# Altium footprint library HVPSlibrary.PcbLib: 149 footprints (part 4 of 11)
Each footprint in its own frame and in the unit in brackets; x right, y up, seen from the top. Pads: shape width x height; smd on the part's side, far side on the other; paste and mask are expansions set on the pad; w line width, h text height; cw(c..) or ccw(c..) is an arc to the next point about the centre after c.
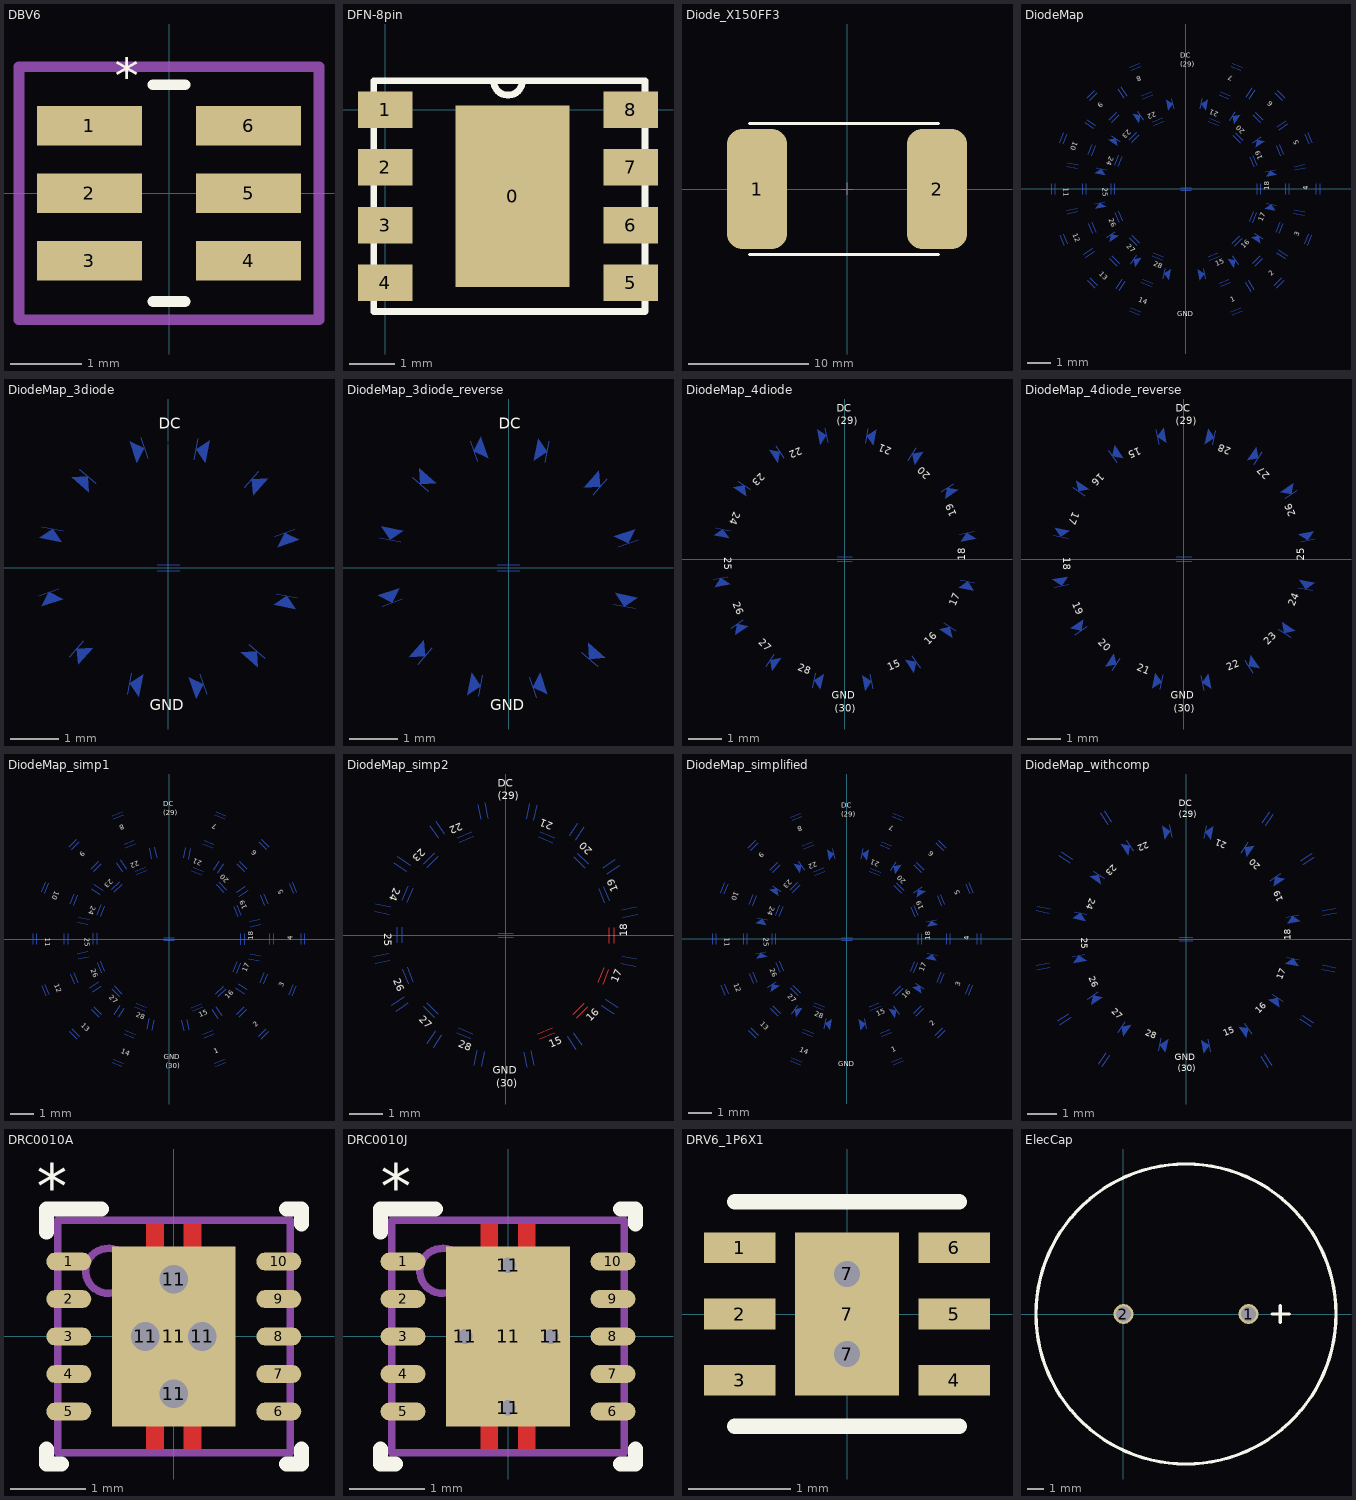
[diagram p3: the footprints below, top view; thin cyan lines are the x and y axes]

## DBV6 [mil]
pads (6):
  rect 58x22 smd: 1(-44,37.4) 2(-44,0) 3(-44,-37.4) 4(44,-37.4) 5(44,0) 6(44,37.4)
Top Overlay:
  lines w6: -8.91,-60 8.91,-60 ; -8.91,60 8.91,60
  text "*" at -30,55 h19.68
Mechanical 13:
  text "*" at -30,55 h19.68
Mechanical 15:
  lines w6: -83,-70 83,-70 83,70 -83,70 -83,-70

## DFN-8pin [mm]
pads (9):
  rect 2.5x4 smd: 0(2.8,-1.905)
  rect 1.2x0.8 smd: 1(0,0) 2(0,-1.27) 3(0,-2.54) 4(0,-3.81) 5(5.4,-3.81) 6(5.4,-2.54) 7(5.4,-1.27) 8(5.4,0)
Top Overlay:
  lines w0.152: 2.382,0.635 ccw(c2.7,0.635) 3.017,0.635 ; -0.254,-4.445 5.715,-4.445 5.715,0.635 -0.254,0.635 -0.254,-4.445
3D body: height 0.8, standoff 0, extent -0.254,-4.445 5.715,0.635

## Diode_X150FF3 [mm] "Through-hole Diode, Body 15x20mm"
height 15
pads (2):
  rrect50% 5x10 smd: 1(-7.5,0) 2(7.5,0)
Top Overlay:
  lines w0.254: -8.128,-5.461 7.62,-5.461 ; -8.128,5.461 7.62,5.461
Mechanical 15:
  lines w0.1: -0.5,0 0.5,0 ; 0,-0.5 0,0.5
3D body: height 7, standoff 0, extent -7.366,-4.699 7.493,4.699

## DiodeMap [mil]
pads (58):
  round 6 on Bottom Overlay: 2(-93.5,-38) 2(-72.5,-71.5) 2(-71,72.5) 2(-38.5,-93.5) 2(-38,93) 2(-0.5,-101.5) 2(0,-150) 2(0.5,101) 2(38,-93) 2(38.5,93) 2(71,-72) 2(72,72) 2(94,-39) 3(57.4,-138.58) 3(76.54,-184.78) 4(106.07,-106.07) 4(141.42,-141.42) 5(138.58,-57.4) 5(184.78,-76.54) 6(150,0) 6(200,0) 7(138.58,57.4) 7(184.78,76.54) 8(106.07,106.07) 8(141.42,141.42) 9(57.4,138.58) 9(76.54,184.78) 10(0,150) 11(-76.54,184.78) 11(-57.4,138.58) 12(-141.42,141.42) 12(-106.07,106.07) 13(-184.78,76.54) 13(-138.58,57.4) 14(-200,0) 14(-150,0) 15(-184.78,-76.54) 15(-138.58,-57.4) 16(-141.42,-141.42) 16(-106.07,-106.07) 17(-252.04,0.22) 17(-76.54,-184.78) 17(-57.4,-138.58) 18(-233.28,-96.54) 19(-178.58,-178.46) 20(-96.69,-233.21) 21(-0.08,-252.46) 22(96.54,-233.28) 23(178.46,-178.58) 24(233.21,-96.69) 25(252.46,-0.08) 26(233.28,96.54) 27(178.58,178.46) 28(96.69,233.21) 29(0.08,252.46) 30(-96.54,233.28) 31(-178.46,178.58) 32(-231.69,96.38)
Bottom Layer:
  region: 26.18,145.13 33.49,134.42 37.14,152.39
  region: 79.72,124.07 82.38,111.37 92.63,126.57
  region: 121.13,84.12 118.73,71.37 134.02,81.49
  region: 144.1,31.36 137,20.5 155,24
  region: 145.13,-26.18 134.42,-33.49 152.39,-37.14
  region: 124.07,-79.72 111.37,-82.38 126.57,-92.63
  region: 84.12,-121.13 71.37,-118.73 81.49,-134.02
  region: 31.36,-144.1 20.5,-137 24,-155
  region: -22.64,144.9 -33.5,152 -30,134
  region: -77.38,125.37 -90.13,127.77 -80.01,112.48
  region: -119.43,86.28 -132.13,83.62 -116.93,73.37
  region: -144.37,34.32 -155.08,27.01 -137.11,23.36
  region: -146.9,-23.14 -154,-34 -136,-30.5
  region: -127.37,-77.38 -129.77,-90.13 -114.48,-80.01
  region: -88.78,-119.93 -86.12,-132.63 -75.87,-117.43
  region: -36.82,-143.87 -29.51,-154.58 -25.86,-136.61
  lines w1: -228.46,-8.92 -228.46,9.08 ; -222.46,-8.92 -222.46,9.08 ; -214.55,-79.04 -207.66,-95.67 ; -214.48,79.19 -207.6,95.82 ; -209,-76.74 -202.12,-93.37 ; -208.94,76.89 -202.05,93.52 ; -203.08,-35.84 -185.41,-32.4 ; -202.53,38.72 -184.89,35.14 ; -201.93,-41.73 -184.26,-38.29 ; -201.33,44.6 -183.69,41.02 ; -176,-9 -176,9 ; -173.9,-110.82 -158.89,-100.89 ; -172.29,113.28 -157.37,103.22 ; -170.59,-115.83 -155.58,-105.89 ; -170,-9 -170,9 ; -168.94,118.26 -154.01,108.19 ; -167.97,-155.12 -155.24,-167.85 ; -167.85,155.24 -155.12,167.97 ; -166.05,-59.04 -159.16,-75.67 ; -166.05,59.04 -159.16,75.67 ; -163.73,-150.88 -151,-163.61 ; -163.61,151 -150.88,163.73 ; -160.5,-56.74 -153.62,-73.37 ; -160.5,56.74 -153.62,73.37 ; -155.5,-25 -138.5,-21.5 ; -153.03,35.9 -135.98,32.63 ; -134.6,-82.39 -120.24,-72.65 ; -130.81,-118.09 -118.09,-130.81 ; -130.81,118.09 -118.09,130.81 ; -127.15,-8.67 -127.15,9.33 ; -126.83,91.05 -112.33,81.5 ; -126.57,-113.84 -113.84,-126.57 ; -126.57,113.84 -113.84,126.57 ; -121.15,-8.67 -121.15,9.33 ; -121.05,-40.04 -114.16,-56.67 ; -120.79,40.65 -113.9,57.28 ; -118.26,-168.94 -108.19,-154.01 ; -115.83,170.59 -105.89,155.58 ; -115.5,-37.74 -108.62,-54.37 ; -115.25,38.36 -108.36,54.99 ; -113.28,-172.29 -103.22,-157.37 ; -110.82,173.9 -100.89,158.89 ; -96.51,-83.31 -83.78,-96.04 ; -96.04,83.78 -83.31,96.51 ; -95.82,-207.6 -79.19,-214.48 ; -95.67,207.66 -79.04,214.55 ; -93.55,-127.33 -84,-112.83 ; -93.52,-202.05 -76.89,-208.94 ; -93.37,202.12 -76.74,209 ; -92.27,-79.07 -79.54,-91.8 ; -91.8,79.54 -79.07,92.27 ; -82.39,132.6 -72.65,118.24 ; -75.67,-159.16 -59.04,-166.05 ; -75.67,159.16 -59.04,166.05 ; -73.37,-153.62 -56.74,-160.5 ; -73.37,153.62 -56.74,160.5 ; -57.28,-113.9 -40.65,-120.79 ; -56.67,114.16 -40.04,121.05 ; -54.99,-108.36 -38.36,-115.25 ; -54.37,108.62 -37.74,115.5 ; -38.4,-152.53 -35.13,-135.48 ; -24.5,153.5 -21,136.5 ; -9,-2.5 9,-2.5 ; -9,2.5 9,2.5 ; 24.6,136.47 27.87,153.52 ; 29.5,-135.5 33,-152.5 ; 38.36,115.25 54.99,108.36 ; 40.65,120.79 57.28,113.9 ; 56.74,-160.5 73.37,-153.62 ; 56.74,160.5 73.37,153.62 ; 59.04,-166.05 75.67,-159.16 ; 59.04,166.05 75.67,159.16 ; 74.95,116.67 84.5,131.17 ; 76.89,208.94 93.52,202.05 ; 79.07,-92.27 91.8,-79.54 ; 79.11,-113.9 88.85,-128.26 ; 79.19,214.48 95.82,207.6 ; 79.54,91.8 92.27,79.07 ; 83.31,-96.51 96.04,-83.78 ; 83.78,96.04 96.51,83.31 ; 100.89,-158.89 110.82,-173.9 ; 103.22,157.37 113.28,172.29 ; 105.89,-155.58 115.83,-170.59 ; 108.19,154.01 118.26,168.94 ; 108.36,-54.99 115.25,-38.36 ; 108.62,54.37 115.5,37.74 ; 113.84,-126.57 126.57,-113.84 ; 113.84,126.57 126.57,113.84 ; 113.9,-57.28 120.79,-40.65 ; 113.9,79.11 128.26,88.85 ; 114.16,56.67 121.05,40.04 ; 116.67,-74.95 131.17,-84.5 ; 118.09,-130.81 130.81,-118.09 ; 118.09,130.81 130.81,118.09 ; 121.15,-9.33 121.15,8.67 ; 127.15,-9.33 127.15,8.67 ; 135.5,29.5 152.5,33 ; 136.47,-24.6 153.52,-27.87 ; 150.88,-163.73 163.61,-151 ; 151,163.61 163.73,150.88 ; 153.62,-73.37 160.5,-56.74 ; 153.62,73.37 160.5,56.74 ; 154.01,-108.19 168.94,-118.26 ; 155.12,-167.97 167.85,-155.24 ; 155.24,167.85 167.97,155.12 ; 155.58,105.89 170.59,115.83 ; 157.37,-103.22 172.29,-113.28 ; 158.89,100.89 173.9,110.82 ; 159.16,-75.67 166.05,-59.04 ; 159.16,75.67 166.05,59.04 ; 170,-9 170,9 ; 176,-9 176,9 ; 183.69,-41.02 201.33,-44.6 ; 184.26,38.29 201.93,41.73 ; 184.89,-35.14 202.53,-38.72 ; 185.41,32.4 203.08,35.84 ; 202.05,-93.52 208.94,-76.89 ; 202.12,93.37 209,76.74 ; 207.6,-95.82 214.48,-79.19 ; 207.66,95.67 214.55,79.04 ; 222.46,-9.08 222.46,8.92 ; 228.46,-9.08 228.46,8.92 ; 37.74,-115.5 54.37,-108.62 37.74,-115.5 ; 40.04,-121.05 56.67,-114.16 40.04,-121.05 ; 76.74,-209 93.37,-202.12 76.74,-209 ; 79.04,-214.55 95.67,-207.66 79.04,-214.55
Top Overlay:
  text "GND" at -14.5,-220 h15
  text "28" at -57.34,-133.2 h15
  text "27" at -103.94,-101.12 h15
  text "26" at -134.73,-53.64 h15
  text "25" at -145,2 h15
  text "24" at -133.2,57.34 h15
  text "23" at -101.12,103.94 h15
  text "22" at -53.64,134.73 h15
  text "21" at 57.34,133.2 h15
  text "20" at 103.94,101.12 h15
  text "19" at 134.73,53.64 h15
  text "18" at 145,-2 h15
  text "17" at 133.2,-57.34 h15
  text "16" at 101.12,-103.94 h15
  text "15" at 53.64,-134.73 h15
  text "14" at -82.79,-194.64 h15
  text "13" at -150.97,-148.14 h15
  text "12" at -196.17,-79.09 h15
  text "11" at -211.5,2 h15
  text "10" at -194.64,82.79 h15
  text "9" at -148.14,150.97 h15
  text "8" at -79.09,196.17 h15
  text "DC / (29)" at -9.88,204.98 h15
  text "7" at 82.79,194.64 h15
  text "6" at 150.97,148.14 h15
  text "5" at 196.17,79.09 h15
  text "4" at 211.5,-2 h15
  text "3" at 194.64,-82.79 h15
  text "2" at 148.14,-150.97 h15
  text "1" at 79.09,-196.17 h15
Bottom Overlay:
  drawing of 182 lines, arcs and shapes, not listed

## DiodeMap_3diode [mil]
pads (12):
  round 6 on Bottom Overlay: 9(0.5,101) 10(-49.88,88.4) 11(-87.4,51.62) 12(-101.5,1) 13(-88.4,-49.88) 14(-51.62,-87.4) 15(-1,-101.5) 16(49.88,-88.4) 17(87.4,-51.62) 18(101.5,-1) 19(88.4,49.88) 20(51.62,87.4)
Bottom Layer:
  region: 22.67,95.9 29.99,85.18 33.64,103.15
  region: 67.59,71.72 68.56,58.78 80.71,72.51
  region: 94.39,28.31 88.76,16.62 106.15,22.44
  region: 95.9,-22.67 85.18,-29.99 103.15,-33.64
  region: 71.72,-67.59 58.78,-68.56 72.51,-80.71
  region: 28.31,-94.39 16.62,-88.76 22.44,-106.15
  region: -31.45,-93.73 -24.14,-104.45 -20.48,-86.48
  region: -74.1,-65.45 -73.13,-78.39 -60.98,-64.65
  region: -96.9,-19.63 -102.53,-31.32 -85.14,-25.5
  region: -93.73,31.45 -104.45,24.14 -86.48,20.48
  region: -65.45,74.1 -78.39,73.13 -64.65,60.98
  region: -19.63,96.9 -31.32,102.53 -25.5,85.14
  lines w1: -105.19,-22.59 -88.79,-16.9 ; -102.39,33.03 -85.35,29.76 ; -79.8,-72.16 -68.44,-59.03 ; -72.16,79.8 -59.03,68.44 ; -33.03,-102.39 -29.76,-85.35 ; -22.59,105.19 -16.9,88.79 ; -9,-2.5 9,-2.5 ; -9,2.5 9,2.5 ; 21.1,87.24 24.37,104.29 ; 25.35,-86.1 31.04,-102.5 ; 61.89,65 73.25,78.13 ; 65,-61.89 78.13,-73.25 ; 86.1,25.35 102.5,31.04 ; 87.24,-21.1 104.29,-24.37
Top Overlay:
  text "DC" at -8,109.5 h15
  text "GND" at -15,-118.5 h15
Bottom Overlay:
  lines w1: -101.5,1 -95.88,22.51 ; -101.15,0.33 -97,-19.5 ; -94.29,-28.44 -88.4,-49.88 ; -93.75,31.61 -87.44,50.87 ; -87.77,-50.29 -74.25,-65.39 ; -87.4,51.62 -71.78,67.44 ; -67.44,-71.78 -51.62,-87.4 ; -65.39,74.25 -50.29,87.77 ; -50.87,-87.44 -31.61,-93.75 ; -49.88,88.4 -28.44,94.29 ; -22.51,-95.88 -1,-101.5 ; -19.5,97 0.33,101.15 0.33,3 ; -0.33,-101.15 19.5,-97 ; -0.17,-101 -0.17,-2.85 ; 1,101.5 22.51,95.88 ; 28.44,-94.29 49.88,-88.4 ; 31.61,93.75 50.87,87.44 ; 50.29,-87.77 65.39,-74.25 ; 51.62,87.4 67.44,71.78 ; 71.78,-67.44 87.4,-51.62 ; 74.25,65.39 87.77,50.29 ; 87.44,-50.87 93.75,-31.61 ; 88.4,49.88 94.29,28.44 ; 95.88,-22.51 101.5,-1 ; 97,19.5 101.15,-0.33

## DiodeMap_3diode_reverse [mil]
pads (12):
  round 6 on Bottom Overlay: 9(-0.5,-101) 10(49.88,-88.4) 11(87.4,-51.62) 12(101.5,-1) 13(88.4,49.88) 14(51.62,87.4) 15(1,101.5) 16(-49.88,88.4) 17(-87.4,51.62) 18(-101.5,1) 19(-88.4,-49.88) 20(-51.62,-87.4)
Bottom Layer:
  region: 19.63,-96.9 31.32,-102.53 25.5,-85.14
  region: 65.45,-74.1 78.39,-73.13 64.65,-60.98
  region: 93.73,-31.45 104.45,-24.14 86.48,-20.48
  region: 96.9,19.63 102.53,31.32 85.14,25.5
  region: 74.1,65.45 73.13,78.39 60.98,64.65
  region: 31.45,93.73 24.14,104.45 20.48,86.48
  region: -28.31,94.39 -16.62,88.76 -22.44,106.15
  region: -71.72,67.59 -58.78,68.56 -72.51,80.71
  region: -95.9,22.67 -85.18,29.99 -103.15,33.64
  region: -94.39,-28.31 -88.76,-16.62 -106.15,-22.44
  region: -67.59,-71.72 -68.56,-58.78 -80.71,-72.51
  region: -22.67,-95.9 -29.99,-85.18 -33.64,-103.15
  lines w1: -104.29,24.37 -87.24,21.1 ; -102.5,-31.04 -86.1,-25.35 ; -78.13,73.25 -65,61.89 ; -73.25,-78.13 -61.89,-65 ; -31.04,102.5 -25.35,86.1 ; -24.37,-104.29 -21.1,-87.24 ; -9,-2.5 9,-2.5 ; -9,2.5 9,2.5 ; 16.9,-88.79 22.59,-105.19 ; 29.76,85.35 33.03,102.39 ; 59.03,-68.44 72.16,-79.8 ; 68.44,59.03 79.8,72.16 ; 85.35,-29.76 102.39,-33.03 ; 88.79,16.9 105.19,22.59
Top Overlay:
  text "GND" at -15,-118.5 h15
  text "DC" at -8,109.5 h15
Bottom Overlay:
  lines w1: -101.5,1 -95.88,22.51 ; -101.15,0.33 -97,-19.5 ; -94.29,-28.44 -88.4,-49.88 ; -93.75,31.61 -87.44,50.87 ; -87.77,-50.29 -74.25,-65.39 ; -87.4,51.62 -71.78,67.44 ; -67.44,-71.78 -51.62,-87.4 ; -65.39,74.25 -50.29,87.77 ; -50.87,-87.44 -31.61,-93.75 ; -49.88,88.4 -28.44,94.29 ; -22.51,-95.88 -1,-101.5 ; -19.5,97 0.33,101.15 ; -0.33,-3 -0.33,-101.15 19.5,-97 ; 0.17,2.85 0.17,101 ; 1,101.5 22.51,95.88 ; 28.44,-94.29 49.88,-88.4 ; 31.61,93.75 50.87,87.44 ; 50.29,-87.77 65.39,-74.25 ; 51.62,87.4 67.44,71.78 ; 71.78,-67.44 87.4,-51.62 ; 74.25,65.39 87.77,50.29 ; 87.44,-50.87 93.75,-31.61 ; 88.4,49.88 94.29,28.44 ; 95.88,-22.51 101.5,-1 ; 97,19.5 101.15,-0.33

## DiodeMap_4diode [mil]
pads (15):
  round 6 on Bottom Overlay: 2(0,-150) 3(57.4,-138.58) 4(106.07,-106.07) 5(138.58,-57.4) 6(150,0) 7(138.58,57.4) 8(106.07,106.07) 9(57.4,138.58) 10(0,150) 11(-57.4,138.58) 12(-106.07,106.07) 13(-138.58,57.4) 14(-150,0) 15(-138.58,-57.4) 16(-106.07,-106.07)
Bottom Layer:
  region: -35.82,-142.87 -28.51,-153.58 -24.86,-135.61
  region: -87.78,-118.93 -85.12,-131.63 -74.87,-116.43
  region: -126.37,-76.38 -128.77,-89.13 -113.48,-79.01
  region: -145.9,-22.14 -153,-33 -135,-29.5
  region: -143.37,35.32 -154.08,28.01 -136.11,24.36
  region: -118.43,87.28 -131.13,84.62 -115.93,74.37
  region: -76.38,126.37 -89.13,128.77 -79.01,113.48
  region: -21.64,145.9 -32.5,153 -29,135
  region: 26.18,145.13 33.49,134.42 37.14,152.39
  region: 79.72,124.07 82.38,111.37 92.63,126.57
  region: 121.13,84.12 118.73,71.37 134.02,81.49
  region: 144.1,31.36 137,20.5 155,24
  region: 145.13,-26.18 134.42,-33.49 152.39,-37.14
  region: 124.07,-79.72 111.37,-82.38 126.57,-92.63
  region: 84.12,-121.13 71.37,-118.73 81.49,-134.02
  region: 31.36,-144.1 20.5,-137 24,-155
  lines w1: -154.5,-24 -137.5,-20.5 ; -152.03,36.9 -134.98,33.63 ; -133.6,-81.39 -119.24,-71.65 ; -125.83,92.05 -111.33,82.5 ; -92.55,-126.33 -83,-111.83 ; -81.39,133.6 -71.65,119.24 ; -37.4,-151.53 -34.13,-134.48 ; -23.5,154.5 -20,137.5 ; -9,-2.5 9,-2.5 ; -9,2.5 9,2.5 ; 24.6,136.47 27.87,153.52 ; 29.5,-135.5 33,-152.5 ; 74.95,116.67 84.5,131.17 ; 79.11,-113.9 88.85,-128.26 ; 113.9,79.11 128.26,88.85 ; 116.67,-74.95 131.17,-84.5 ; 135.5,29.5 152.5,33 ; 136.47,-24.6 153.52,-27.87
Top Overlay:
  text "GND /  (30)" at -15.5,-182.5 h15
  text "28" at -57.34,-133.2 h15
  text "27" at -103.94,-101.12 h15
  text "26" at -134.73,-53.64 h15
  text "25" at -145,2 h15
  text "24" at -133.2,57.34 h15
  text "22" at -53.64,134.73 h15
  text "21" at 57.34,133.2 h15
  text "20" at 103.94,101.12 h15
  text "19" at 134.73,53.64 h15
  text "18" at 145,-2 h15
  text "17" at 133.2,-57.34 h15
  text "16" at 101.12,-103.94 h15
  text "15" at 53.64,-134.73 h15
  text "DC / (29)" at -9.5,156 h15
  text "23" at -101.12,103.94 h15
Bottom Overlay:
  lines w1: -146,-22 -150,0 -145.13,26.18 ; -144.1,-31.36 -138.58,-57.4 -126.47,-76.2 ; -143.31,35.55 -138.58,57.4 -124.07,79.72 ; -121.13,-84.12 -106.07,-106.07 -87.68,-118.79 ; -118.79,87.68 -106.07,106.07 -84.12,121.13 ; -79.72,-124.07 -57.4,-138.58 -35.55,-143.31 ; -76.2,126.47 -57.4,138.58 -31.36,144.1 ; -26.18,-145.13 0,-150 22,-146 ; -22,146 0,150 26.18,145.13 ; -0.33,-151.15 -0.33,-127.65 -0.33,-101.15 ; -0.17,-101 -0.17,-2.85 ; 0.33,3 0.33,101.15 0.33,120.65 0.33,151.15 ; 31.36,-144.1 57.4,-138.58 76.2,-126.47 ; 35.55,143.31 57.4,138.58 79.72,124.07 ; 84.12,-121.13 106.07,-106.07 118.79,-87.68 ; 87.68,118.79 106.07,106.07 121.13,84.12 ; 124.07,-79.72 138.58,-57.4 143.31,-35.55 ; 126.47,76.2 138.58,57.4 144.1,31.36 ; 145.13,-26.18 150,0 146,22

## DiodeMap_4diode_reverse [mil]
pads (15):
  round 6 on Bottom Overlay: 2(0,150) 3(-57.4,138.58) 4(-106.07,106.07) 5(-138.58,57.4) 6(-150,0) 7(-138.58,-57.4) 8(-106.07,-106.07) 9(-57.4,-138.58) 10(0,-150) 11(57.4,-138.58) 12(106.07,-106.07) 13(138.58,-57.4) 14(150,0) 15(138.58,57.4) 16(106.07,106.07)
Bottom Layer:
  region: -31.36,144.1 -20.5,137 -24,155
  region: -84.12,121.13 -71.37,118.73 -81.49,134.02
  region: -124.07,79.72 -111.37,82.38 -126.57,92.63
  region: -145.13,26.18 -134.42,33.49 -152.39,37.14
  region: -144.1,-31.36 -137,-20.5 -155,-24
  region: -121.13,-84.12 -118.73,-71.37 -134.02,-81.49
  region: -79.72,-124.07 -82.38,-111.37 -92.63,-126.57
  region: -26.18,-145.13 -33.49,-134.42 -37.14,-152.39
  region: 21.64,-145.9 32.5,-153 29,-135
  region: 76.38,-126.37 89.13,-128.77 79.01,-113.48
  region: 118.43,-87.28 131.13,-84.62 115.93,-74.37
  region: 143.37,-35.32 154.08,-28.01 136.11,-24.36
  region: 145.9,22.14 153,33 135,29.5
  region: 126.37,76.38 128.77,89.13 113.48,79.01
  region: 87.78,118.93 85.12,131.63 74.87,116.43
  region: 35.82,142.87 28.51,153.58 24.86,135.61
  lines w1: -153.52,27.87 -136.47,24.6 ; -152.5,-33 -135.5,-29.5 ; -131.17,84.5 -116.67,74.95 ; -128.26,-88.85 -113.9,-79.11 ; -88.85,128.26 -79.11,113.9 ; -84.5,-131.17 -74.95,-116.67 ; -33,152.5 -29.5,135.5 ; -27.87,-153.52 -24.6,-136.47 ; -9,-2.5 9,-2.5 ; -9,2.5 9,2.5 ; 20,-137.5 23.5,-154.5 ; 34.13,134.48 37.4,151.53 ; 71.65,-119.24 81.39,-133.6 ; 83,111.83 92.55,126.33 ; 111.33,-82.5 125.83,-92.05 ; 119.24,71.65 133.6,81.39 ; 134.98,-33.63 152.03,-36.9 ; 137.5,20.5 154.5,24
Top Overlay:
  text "23" at 101.12,-103.94 h15
  text "DC / (29)" at -9.5,156 h15
  text "15" at -53.64,134.73 h15
  text "16" at -101.12,103.94 h15
  text "17" at -133.2,57.34 h15
  text "18" at -145,2 h15
  text "19" at -134.73,-53.64 h15
  text "20" at -103.94,-101.12 h15
  text "21" at -57.34,-133.2 h15
  text "22" at 53.64,-134.73 h15
  text "24" at 133.2,-57.34 h15
  text "25" at 145,-2 h15
  text "26" at 134.73,53.64 h15
  text "27" at 103.94,101.12 h15
  text "28" at 57.34,133.2 h15
  text "GND /  (30)" at -15.5,-182.5 h15
Bottom Overlay:
  lines w1: -146,-22 -150,0 -145.13,26.18 ; -144.1,-31.36 -138.58,-57.4 -126.47,-76.2 ; -143.31,35.55 -138.58,57.4 -124.07,79.72 ; -121.13,-84.12 -106.07,-106.07 -87.68,-118.79 ; -118.79,87.68 -106.07,106.07 -84.12,121.13 ; -79.72,-124.07 -57.4,-138.58 -35.55,-143.31 ; -76.2,126.47 -57.4,138.58 -31.36,144.1 ; -26.18,-145.13 0,-150 22,-146 ; -22,146 0,150 26.18,145.13 ; -0.33,-151.15 -0.33,-120.65 -0.33,-101.15 -0.33,-3 ; 0.17,2.85 0.17,101 ; 0.33,101.15 0.33,127.65 0.33,151.15 ; 31.36,-144.1 57.4,-138.58 76.2,-126.47 ; 35.55,143.31 57.4,138.58 79.72,124.07 ; 84.12,-121.13 106.07,-106.07 118.79,-87.68 ; 87.68,118.79 106.07,106.07 121.13,84.12 ; 124.07,-79.72 138.58,-57.4 143.31,-35.55 ; 126.47,76.2 138.58,57.4 144.1,31.36 ; 145.13,-26.18 150,0 146,22

## DiodeMap_simp1 [mil]
pads (35):
  round 6 on Bottom Overlay: 2(0,-200) 2(0,-200) 2(0,-150) 2(0,-101.5) 2(1,101) 3(57.4,-138.58) 3(76.54,-184.78) 4(106.07,-106.07) 4(141.42,-141.42) 5(138.58,-57.4) 5(184.78,-76.54) 6(150,0) 6(200,0) 7(138.58,57.4) 7(184.78,76.54) 8(106.07,106.07) 8(141.42,141.42) 9(57.4,138.58) 9(76.54,184.78) 10(0,150) 10(0,200) 11(-76.54,184.78) 11(-57.4,138.58) 12(-141.42,141.42) 12(-106.07,106.07) 13(-184.78,76.54) 13(-138.58,57.4) 14(-200,0) 14(-150,0) 15(-184.78,-76.54) 15(-138.58,-57.4) 16(-141.42,-141.42) 16(-106.07,-106.07) 17(-76.54,-184.78) 17(-57.4,-138.58)
Bottom Layer:
  lines w1: -228.46,-8.92 -228.46,9.08 ; -222.46,-8.92 -222.46,9.08 ; -214.55,-79.04 -207.66,-95.67 ; -214.48,79.19 -207.6,95.82 ; -209,-76.74 -202.12,-93.37 ; -208.94,76.89 -202.05,93.52 ; -176,-9 -176,9 ; -170,-9 -170,9 ; -167.97,-155.12 -155.24,-167.85 ; -167.85,155.24 -155.12,167.97 ; -166.05,-59.04 -159.16,-75.67 ; -166.05,59.04 -159.16,75.67 ; -163.73,-150.88 -151,-163.61 ; -163.61,151 -150.88,163.73 ; -160.5,-56.74 -153.62,-73.37 ; -160.5,56.74 -153.62,73.37 ; -154.67,-24.44 -137,-21 ; -153.52,27.87 -136.47,24.6 ; -152.5,-33 -135.5,-29.5 ; -152.25,36.61 -134.61,33.03 ; -133.54,-81.77 -118.54,-71.83 ; -131.17,84.5 -116.67,74.95 ; -130.81,-118.09 -118.09,-130.81 ; -130.81,118.09 -118.09,130.81 ; -128.26,-88.85 -113.9,-79.11 ; -127.15,-8.67 -127.15,9.33 ; -126.65,92.09 -111.72,82.02 ; -126.57,-113.84 -113.84,-126.57 ; -126.57,113.84 -113.84,126.57 ; -121.15,-8.67 -121.15,9.33 ; -121.05,-40.04 -114.16,-56.67 ; -120.79,40.65 -113.9,57.28 ; -115.5,-37.74 -108.62,-54.37 ; -115.25,38.36 -108.36,54.99 ; -96.51,-83.31 -83.78,-96.04 ; -96.04,83.78 -83.31,96.51 ; -95.82,-207.6 -79.19,-214.48 ; -95.67,207.66 -79.04,214.55 ; -93.52,-202.05 -76.89,-208.94 ; -93.37,202.12 -76.74,209 ; -92.27,-79.07 -79.54,-91.8 ; -92.09,-126.65 -82.02,-111.72 ; -91.8,79.54 -79.07,92.27 ; -88.85,128.26 -79.11,113.9 ; -84.5,-131.17 -74.95,-116.67 ; -81.77,133.54 -71.83,118.54 ; -75.67,-159.16 -59.04,-166.05 ; -75.67,159.16 -59.04,166.05 ; -73.37,-153.62 -56.74,-160.5 ; -73.37,153.62 -56.74,160.5 ; -57.28,-113.9 -40.65,-120.79 ; -56.67,114.16 -40.04,121.05 ; -54.99,-108.36 -38.36,-115.25 ; -54.37,108.62 -37.74,115.5 ; -36.61,-152.25 -33.03,-134.61 ; -33,152.5 -29.5,135.5 ; -27.87,-153.52 -24.6,-136.47 ; -24.44,154.67 -21,137 ; -9,-2.5 9,-2.5 ; -9,2.5 9,2.5 ; 21,-137 24.44,-154.67 ; 24.6,136.47 27.87,153.52 ; 29.5,-135.5 33,-152.5 ; 33.03,134.61 36.61,152.25 ; 38.36,115.25 54.99,108.36 ; 40.65,120.79 57.28,113.9 ; 56.74,-160.5 73.37,-153.62 ; 56.74,160.5 73.37,153.62 ; 59.04,-166.05 75.67,-159.16 ; 59.04,166.05 75.67,159.16 ; 71.83,-118.54 81.77,-133.54 ; 74.95,116.67 84.5,131.17 ; 76.89,208.94 93.52,202.05 ; 79.07,-92.27 91.8,-79.54 ; 79.11,-113.9 88.85,-128.26 ; 79.19,214.48 95.82,207.6 ; 79.54,91.8 92.27,79.07 ; 82.02,111.72 92.09,126.65 ; 83.31,-96.51 96.04,-83.78 ; 83.78,96.04 96.51,83.31 ; 108.36,-54.99 115.25,-38.36 ; 108.62,54.37 115.5,37.74 ; 111.72,-82.02 126.65,-92.09 ; 113.84,-126.57 126.57,-113.84 ; 113.84,126.57 126.57,113.84 ; 113.9,-57.28 120.79,-40.65 ; 113.9,79.11 128.26,88.85 ; 114.16,56.67 121.05,40.04 ; 116.67,-74.95 131.17,-84.5 ; 118.09,-130.81 130.81,-118.09 ; 118.09,130.81 130.81,118.09 ; 118.54,71.83 133.54,81.77 ; 121.15,-9.33 121.15,8.67 ; 127.15,-9.33 127.15,8.67 ; 134.61,-33.03 152.25,-36.61 ; 135.5,29.5 152.5,33 ; 136.47,-24.6 153.52,-27.87 ; 137,21 154.67,24.44 ; 150.88,-163.73 163.61,-151 ; 151,163.61 163.73,150.88 ; 153.62,-73.37 160.5,-56.74 ; 153.62,73.37 160.5,56.74 ; 155.12,-167.97 167.85,-155.24 ; 155.24,167.85 167.97,155.12 ; 159.16,-75.67 166.05,-59.04 ; 159.16,75.67 166.05,59.04 ; 170,-9 170,9 ; 176,-9 176,9 ; 202.05,-93.52 208.94,-76.89 ; 202.12,93.37 209,76.74 ; 207.6,-95.82 214.48,-79.19 ; 207.66,95.67 214.55,79.04 ; 222.46,-9.08 222.46,8.92 ; 228.46,-9.08 228.46,8.92 ; 37.74,-115.5 54.37,-108.62 37.74,-115.5 ; 40.04,-121.05 56.67,-114.16 40.04,-121.05 ; 76.74,-209 93.37,-202.12 76.74,-209 ; 79.04,-214.55 95.67,-207.66 79.04,-214.55
Top Overlay:
  text "28" at -57.34,-133.2 h15
  text "27" at -103.94,-101.12 h15
  text "26" at -134.73,-53.64 h15
  text "25" at -145,2 h15
  text "24" at -133.2,57.34 h15
  text "23" at -101.12,103.94 h15
  text "22" at -53.64,134.73 h15
  text "21" at 57.34,133.2 h15
  text "20" at 103.94,101.12 h15
  text "19" at 134.73,53.64 h15
  text "18" at 145,-2 h15
  text "17" at 133.2,-57.34 h15
  text "16" at 101.12,-103.94 h15
  text "15" at 53.64,-134.73 h15
  text "14" at -82.79,-194.64 h15
  text "13" at -150.97,-148.14 h15
  text "12" at -196.17,-79.09 h15
  text "11" at -211.5,2 h15
  text "10" at -194.64,82.79 h15
  text "9" at -148.14,150.97 h15
  text "8" at -79.09,196.17 h15
  text "DC / (29)" at -9.88,204.98 h15
  text "7" at 82.79,194.64 h15
  text "6" at 150.97,148.14 h15
  text "5" at 196.17,79.09 h15
  text "4" at 211.5,-2 h15
  text "3" at 194.64,-82.79 h15
  text "2" at 148.14,-150.97 h15
  text "1" at 79.09,-196.17 h15
  text "GND /  (30)" at -9,-220.5 h15
Bottom Overlay:
  drawing of 158 lines, arcs and shapes, not listed

## DiodeMap_simp2 [mil]
pads (18):
  round 6 on Bottom Overlay: 2(-0.5,-101.5) 2(0,-150) 2(1,101) 3(57.4,-138.58) 4(106.07,-106.07) 5(138.58,-57.4) 6(150,0) 7(138.58,57.4) 8(106.07,106.07) 9(57.4,138.58) 10(0,150) 11(-57.4,138.58) 12(-106.07,106.07) 13(-138.58,57.4) 14(-150,0) 15(-138.58,-57.4) 16(-106.07,-106.07) 17(-57.4,-138.58)
Top Layer:
  lines w1: 37.74,-115.5 54.37,-108.62 ; 40.04,-121.05 56.67,-114.16 ; 79.07,-92.27 91.8,-79.54 ; 83.31,-96.51 96.04,-83.78 ; 108.36,-54.99 115.25,-38.36 ; 113.9,-57.28 120.79,-40.65 ; 121.15,-9.33 121.15,8.67 ; 127.15,-9.33 127.15,8.67
Bottom Layer:
  lines w1: -154.67,-24.44 -137,-21 ; -153.52,27.87 -136.47,24.6 ; -152.5,-33 -135.5,-29.5 ; -152.25,36.61 -134.61,33.03 ; -133.54,-81.77 -118.54,-71.83 ; -131.17,84.5 -116.67,74.95 ; -128.26,-88.85 -113.9,-79.11 ; -127.15,-8.67 -127.15,9.33 ; -126.65,92.09 -111.72,82.02 ; -121.15,-8.67 -121.15,9.33 ; -121.05,-40.04 -114.16,-56.67 ; -120.79,40.65 -113.9,57.28 ; -115.5,-37.74 -108.62,-54.37 ; -115.25,38.36 -108.36,54.99 ; -96.51,-83.31 -83.78,-96.04 ; -96.04,83.78 -83.31,96.51 ; -92.27,-79.07 -79.54,-91.8 ; -92.09,-126.65 -82.02,-111.72 ; -91.8,79.54 -79.07,92.27 ; -88.85,128.26 -79.11,113.9 ; -84.5,-131.17 -74.95,-116.67 ; -81.77,133.54 -71.83,118.54 ; -57.28,-113.9 -40.65,-120.79 ; -56.67,114.16 -40.04,121.05 ; -54.99,-108.36 -38.36,-115.25 ; -54.37,108.62 -37.74,115.5 ; -36.61,-152.25 -33.03,-134.61 ; -33,152.5 -29.5,135.5 ; -27.87,-153.52 -24.6,-136.47 ; -24.44,154.67 -21,137 ; -9,-2.5 9,-2.5 ; -9,2.5 9,2.5 ; 21,-137 24.44,-154.67 ; 24.6,136.47 27.87,153.52 ; 29.5,-135.5 33,-152.5 ; 33.03,134.61 36.61,152.25 ; 38.36,115.25 54.99,108.36 ; 40.65,120.79 57.28,113.9 ; 71.83,-118.54 81.77,-133.54 ; 74.95,116.67 84.5,131.17 ; 79.11,-113.9 88.85,-128.26 ; 79.54,91.8 92.27,79.07 ; 82.02,111.72 92.09,126.65 ; 83.78,96.04 96.51,83.31 ; 108.62,54.37 115.5,37.74 ; 111.72,-82.02 126.65,-92.09 ; 113.9,79.11 128.26,88.85 ; 114.16,56.67 121.05,40.04 ; 116.67,-74.95 131.17,-84.5 ; 118.54,71.83 133.54,81.77 ; 134.61,-33.03 152.25,-36.61 ; 135.5,29.5 152.5,33 ; 136.47,-24.6 153.52,-27.87 ; 137,21 154.67,24.44
Top Overlay:
  text "28" at -57.34,-133.2 h15
  text "27" at -103.94,-101.12 h15
  text "26" at -134.73,-53.64 h15
  text "25" at -145,2 h15
  text "24" at -133.2,57.34 h15
  text "23" at -101.12,103.94 h15
  text "22" at -53.64,134.73 h15
  text "21" at 57.34,133.2 h15
  text "20" at 103.94,101.12 h15
  text "19" at 134.73,53.64 h15
  text "18" at 145,-2 h15
  text "17" at 133.2,-57.34 h15
  text "16" at 101.12,-103.94 h15
  text "15" at 53.64,-134.73 h15
  text "DC / (29)" at -9.5,156 h15
  text "GND /  (30)" at -15,-180 h15
Bottom Overlay:
  lines w1: -151.15,0.33 -127.65,0.33 ; -146,-22 -150,0 -145.13,26.18 ; -144.1,-31.36 -138.58,-57.4 -126.47,-76.2 ; -143.31,35.55 -138.58,57.4 -124.07,79.72 ; -139.78,-57.54 -118.06,-48.54 ; -139.52,58.15 -117.81,49.16 ; -121.13,-84.12 -106.07,-106.07 -87.68,-118.79 ; -120.65,0.33 -101.15,0.33 ; -118.79,87.68 -106.07,106.07 -84.12,121.13 ; -111.6,-45.86 -93.58,-38.4 ; -111.34,46.48 -93.33,39.02 ; -107.12,-106.65 -90.5,-90.03 ; -106.65,107.12 -90.03,90.5 ; -101.41,1.63 -93.83,-37.11 ; -94.31,-37.31 -72.49,-70.19 ; -92.59,40.11 -70.56,72.86 ; -85.55,-85.08 -71.76,-71.29 ; -85.08,85.55 -71.29,71.76 ; -79.72,-124.07 -57.4,-138.58 -35.55,-143.31 ; -76.2,126.47 -57.4,138.58 -31.36,144.1 ; -72.86,-70.56 -40.11,-92.59 ; -70.19,72.49 -37.31,94.31 ; -58.15,-139.52 -49.16,-117.81 ; -57.54,139.78 -48.54,118.06 ; -46.48,-111.34 -39.02,-93.33 ; -45.86,111.6 -38.4,93.58 ; -40.31,-93.07 -1.62,-100.89 ; -37.11,93.83 1.63,101.41 ; -26.18,-145.13 0,-150 22,-146 ; -22,146 0,150 26.18,145.13 ; -1.63,-101.41 38.4,-93.58 ; -0.33,-151.15 -0.33,-127.65 -0.33,-101.15 ; -0.17,-101 -0.17,-2.85 ; 0.33,3 0.33,101.15 0.33,120.65 0.33,151.15 ; 1.62,100.89 40.31,93.07 ; 31.36,-144.1 57.4,-138.58 76.2,-126.47 ; 35.55,143.31 57.4,138.58 79.72,124.07 ; 39.02,93.33 46.48,111.34 ; 40.11,92.59 72.86,70.56 ; 45.86,-111.6 38.4,-93.58 ; 48.54,-118.06 57.54,-139.78 ; 49.16,117.81 58.15,139.52 ; 70.56,-72.86 92.59,-40.11 ; 71.76,71.29 85.55,85.08 ; 72.49,70.19 94.31,37.31 ; 84.12,-121.13 106.07,-106.07 118.79,-87.68 ; 85.08,-85.55 71.29,-71.76 38.4,-93.58 ; 87.68,118.79 106.07,106.07 121.13,84.12 ; 90.03,-90.5 106.65,-107.12 ; 90.5,90.03 107.12,106.65 ; 93.07,-40.31 100.89,-1.62 ; 93.33,-39.02 111.34,-46.48 ; 93.58,38.4 111.6,45.86 ; 101.15,-0.33 120.65,-0.33 ; 117.81,-49.16 139.52,-58.15 ; 118.06,48.54 139.78,57.54 ; 124.07,-79.72 138.58,-57.4 143.31,-35.55 ; 126.47,76.2 138.58,57.4 144.1,31.36 ; 127.65,-0.33 151.15,-0.33 ; 145.13,-26.18 150,0 146,22

## DiodeMap_simplified [mil]
pads (58):
  round 6 on Bottom Overlay: 2(-93.5,-38) 2(-72.5,-71.5) 2(-71,72.5) 2(-38.5,-93.5) 2(-38,93) 2(-0.5,-101.5) 2(0,-150) 2(0.5,101) 2(38,-93) 2(38.5,93) 2(71,-72) 2(72,72) 2(94,-39) 3(57.4,-138.58) 3(76.54,-184.78) 4(106.07,-106.07) 4(141.42,-141.42) 5(138.58,-57.4) 5(184.78,-76.54) 6(150,0) 6(200,0) 7(138.58,57.4) 7(184.78,76.54) 8(106.07,106.07) 8(141.42,141.42) 9(57.4,138.58) 9(76.54,184.78) 10(0,150) 11(-76.54,184.78) 11(-57.4,138.58) 12(-141.42,141.42) 12(-106.07,106.07) 13(-184.78,76.54) 13(-138.58,57.4) 14(-200,0) 14(-150,0) 15(-184.78,-76.54) 15(-138.58,-57.4) 16(-141.42,-141.42) 16(-106.07,-106.07) 17(-252.04,0.22) 17(-76.54,-184.78) 17(-57.4,-138.58) 18(-233.28,-96.54) 19(-178.58,-178.46) 20(-96.69,-233.21) 21(-0.08,-252.46) 22(96.54,-233.28) 23(178.46,-178.58) 24(233.21,-96.69) 25(252.46,-0.08) 26(233.28,96.54) 27(178.58,178.46) 28(96.69,233.21) 29(0.08,252.46) 30(-96.54,233.28) 31(-178.46,178.58) 32(-231.69,96.38)
Bottom Layer:
  region: 26.18,145.13 33.49,134.42 37.14,152.39
  region: 79.72,124.07 82.38,111.37 92.63,126.57
  region: 121.13,84.12 118.73,71.37 134.02,81.49
  region: 144.1,31.36 137,20.5 155,24
  region: 145.13,-26.18 134.42,-33.49 152.39,-37.14
  region: 124.07,-79.72 111.37,-82.38 126.57,-92.63
  region: 84.12,-121.13 71.37,-118.73 81.49,-134.02
  region: 31.36,-144.1 20.5,-137 24,-155
  region: -22.64,144.9 -33.5,152 -30,134
  region: -77.38,125.37 -90.13,127.77 -80.01,112.48
  region: -119.43,86.28 -132.13,83.62 -116.93,73.37
  region: -144.37,34.32 -155.08,27.01 -137.11,23.36
  region: -146.9,-23.14 -154,-34 -136,-30.5
  region: -127.37,-77.38 -129.77,-90.13 -114.48,-80.01
  region: -88.78,-119.93 -86.12,-132.63 -75.87,-117.43
  region: -36.82,-143.87 -29.51,-154.58 -25.86,-136.61
  lines w1: -228.46,-8.92 -228.46,9.08 ; -222.46,-8.92 -222.46,9.08 ; -214.55,-79.04 -207.66,-95.67 ; -214.48,79.19 -207.6,95.82 ; -209,-76.74 -202.12,-93.37 ; -208.94,76.89 -202.05,93.52 ; -176,-9 -176,9 ; -170,-9 -170,9 ; -167.97,-155.12 -155.24,-167.85 ; -167.85,155.24 -155.12,167.97 ; -166.05,-59.04 -159.16,-75.67 ; -166.05,59.04 -159.16,75.67 ; -163.73,-150.88 -151,-163.61 ; -163.61,151 -150.88,163.73 ; -160.5,-56.74 -153.62,-73.37 ; -160.5,56.74 -153.62,73.37 ; -155.5,-25 -138.5,-21.5 ; -153.03,35.9 -135.98,32.63 ; -134.6,-82.39 -120.24,-72.65 ; -130.81,-118.09 -118.09,-130.81 ; -130.81,118.09 -118.09,130.81 ; -127.15,-8.67 -127.15,9.33 ; -126.83,91.05 -112.33,81.5 ; -126.57,-113.84 -113.84,-126.57 ; -126.57,113.84 -113.84,126.57 ; -121.15,-8.67 -121.15,9.33 ; -121.05,-40.04 -114.16,-56.67 ; -120.79,40.65 -113.9,57.28 ; -115.5,-37.74 -108.62,-54.37 ; -115.25,38.36 -108.36,54.99 ; -96.51,-83.31 -83.78,-96.04 ; -96.04,83.78 -83.31,96.51 ; -95.82,-207.6 -79.19,-214.48 ; -95.67,207.66 -79.04,214.55 ; -93.55,-127.33 -84,-112.83 ; -93.52,-202.05 -76.89,-208.94 ; -93.37,202.12 -76.74,209 ; -92.27,-79.07 -79.54,-91.8 ; -91.8,79.54 -79.07,92.27 ; -82.39,132.6 -72.65,118.24 ; -75.67,-159.16 -59.04,-166.05 ; -75.67,159.16 -59.04,166.05 ; -73.37,-153.62 -56.74,-160.5 ; -73.37,153.62 -56.74,160.5 ; -57.28,-113.9 -40.65,-120.79 ; -56.67,114.16 -40.04,121.05 ; -54.99,-108.36 -38.36,-115.25 ; -54.37,108.62 -37.74,115.5 ; -38.4,-152.53 -35.13,-135.48 ; -24.5,153.5 -21,136.5 ; -9,-2.5 9,-2.5 ; -9,2.5 9,2.5 ; 24.6,136.47 27.87,153.52 ; 29.5,-135.5 33,-152.5 ; 38.36,115.25 54.99,108.36 ; 40.65,120.79 57.28,113.9 ; 56.74,-160.5 73.37,-153.62 ; 56.74,160.5 73.37,153.62 ; 59.04,-166.05 75.67,-159.16 ; 59.04,166.05 75.67,159.16 ; 74.95,116.67 84.5,131.17 ; 76.89,208.94 93.52,202.05 ; 79.07,-92.27 91.8,-79.54 ; 79.11,-113.9 88.85,-128.26 ; 79.19,214.48 95.82,207.6 ; 79.54,91.8 92.27,79.07 ; 83.31,-96.51 96.04,-83.78 ; 83.78,96.04 96.51,83.31 ; 108.36,-54.99 115.25,-38.36 ; 108.62,54.37 115.5,37.74 ; 113.84,-126.57 126.57,-113.84 ; 113.84,126.57 126.57,113.84 ; 113.9,-57.28 120.79,-40.65 ; 113.9,79.11 128.26,88.85 ; 114.16,56.67 121.05,40.04 ; 116.67,-74.95 131.17,-84.5 ; 118.09,-130.81 130.81,-118.09 ; 118.09,130.81 130.81,118.09 ; 121.15,-9.33 121.15,8.67 ; 127.15,-9.33 127.15,8.67 ; 135.5,29.5 152.5,33 ; 136.47,-24.6 153.52,-27.87 ; 150.88,-163.73 163.61,-151 ; 151,163.61 163.73,150.88 ; 153.62,-73.37 160.5,-56.74 ; 153.62,73.37 160.5,56.74 ; 155.12,-167.97 167.85,-155.24 ; 155.24,167.85 167.97,155.12 ; 159.16,-75.67 166.05,-59.04 ; 159.16,75.67 166.05,59.04 ; 170,-9 170,9 ; 176,-9 176,9 ; 202.05,-93.52 208.94,-76.89 ; 202.12,93.37 209,76.74 ; 207.6,-95.82 214.48,-79.19 ; 207.66,95.67 214.55,79.04 ; 222.46,-9.08 222.46,8.92 ; 228.46,-9.08 228.46,8.92 ; 37.74,-115.5 54.37,-108.62 37.74,-115.5 ; 40.04,-121.05 56.67,-114.16 40.04,-121.05 ; 76.74,-209 93.37,-202.12 76.74,-209 ; 79.04,-214.55 95.67,-207.66 79.04,-214.55
Top Overlay:
  text "GND" at -14.5,-220 h15
  text "28" at -57.34,-133.2 h15
  text "27" at -103.94,-101.12 h15
  text "26" at -134.73,-53.64 h15
  text "25" at -145,2 h15
  text "24" at -133.2,57.34 h15
  text "23" at -101.12,103.94 h15
  text "22" at -53.64,134.73 h15
  text "21" at 57.34,133.2 h15
  text "20" at 103.94,101.12 h15
  text "19" at 134.73,53.64 h15
  text "18" at 145,-2 h15
  text "17" at 133.2,-57.34 h15
  text "16" at 101.12,-103.94 h15
  text "15" at 53.64,-134.73 h15
  text "14" at -82.79,-194.64 h15
  text "13" at -150.97,-148.14 h15
  text "12" at -196.17,-79.09 h15
  text "11" at -211.5,2 h15
  text "10" at -194.64,82.79 h15
  text "9" at -148.14,150.97 h15
  text "8" at -79.09,196.17 h15
  text "DC / (29)" at -9.88,204.98 h15
  text "7" at 82.79,194.64 h15
  text "6" at 150.97,148.14 h15
  text "5" at 196.17,79.09 h15
  text "4" at 211.5,-2 h15
  text "3" at 194.64,-82.79 h15
  text "2" at 148.14,-150.97 h15
  text "1" at 79.09,-196.17 h15
Bottom Overlay:
  drawing of 158 lines, arcs and shapes, not listed

## DiodeMap_withcomp [mil]
pads (31):
  round 6 on Bottom Overlay: 2(0,-150) 2(0.5,101) 3(57.4,-138.58) 3(76.54,-184.78) 4(106.07,-106.07) 4(141.42,-141.42) 5(138.58,-57.4) 5(184.78,-76.54) 6(150,0) 6(200,0) 7(138.58,57.4) 7(184.78,76.54) 8(106.07,106.07) 8(141.42,141.42) 9(57.4,138.58) 9(76.54,184.78) 10(0,150) 11(-76.54,184.78) 11(-57.4,138.58) 12(-141.42,141.42) 12(-106.07,106.07) 13(-184.78,76.54) 13(-138.58,57.4) 14(-200,0) 14(-150,0) 15(-184.78,-76.54) 15(-138.58,-57.4) 16(-141.42,-141.42) 16(-106.07,-106.07) 17(-76.54,-184.78) 17(-57.4,-138.58)
Bottom Layer:
  region: -35.32,-142.87 -28.01,-153.58 -24.36,-135.61
  region: -87.28,-118.93 -84.62,-131.63 -74.37,-116.43
  region: -125.87,-76.38 -128.27,-89.13 -112.98,-79.01
  region: -145.4,-22.14 -152.5,-33 -134.5,-29.5
  region: -142.87,35.32 -153.58,28.01 -135.61,24.36
  region: -117.93,87.28 -130.63,84.62 -115.43,74.37
  region: -75.88,126.37 -88.63,128.77 -78.51,113.48
  region: -21.14,145.9 -32,153 -28.5,135
  region: 26.18,145.13 33.49,134.42 37.14,152.39
  region: 79.72,124.07 82.38,111.37 92.63,126.57
  region: 121.13,84.12 118.73,71.37 134.02,81.49
  region: 144.1,31.36 137,20.5 155,24
  region: 145.13,-26.18 134.42,-33.49 152.39,-37.14
  region: 124.07,-79.72 111.37,-82.38 126.57,-92.63
  region: 84.12,-121.13 71.37,-118.73 81.49,-134.02
  region: 31.36,-144.1 20.5,-137 24,-155
  lines w1: -203.08,-35.84 -185.41,-32.4 ; -202.53,38.72 -184.89,35.14 ; -201.93,-41.73 -184.26,-38.29 ; -201.33,44.6 -183.69,41.02 ; -173.9,-110.82 -158.89,-100.89 ; -172.29,113.28 -157.37,103.22 ; -170.59,-115.83 -155.58,-105.89 ; -168.94,118.26 -154.01,108.19 ; -154,-24 -137,-20.5 ; -151.53,36.9 -134.48,33.63 ; -133.1,-81.39 -118.74,-71.65 ; -125.33,92.05 -110.83,82.5 ; -118.26,-168.94 -108.19,-154.01 ; -115.83,170.59 -105.89,155.58 ; -113.28,-172.29 -103.22,-157.37 ; -110.82,173.9 -100.89,158.89 ; -92.05,-126.33 -82.5,-111.83 ; -80.89,133.6 -71.15,119.24 ; -36.9,-151.53 -33.63,-134.48 ; -23,154.5 -19.5,137.5 ; -9,-2.5 9,-2.5 ; -9,2.5 9,2.5 ; 24.6,136.47 27.87,153.52 ; 29.5,-135.5 33,-152.5 ; 74.95,116.67 84.5,131.17 ; 79.11,-113.9 88.85,-128.26 ; 100.89,-158.89 110.82,-173.9 ; 103.22,157.37 113.28,172.29 ; 105.89,-155.58 115.83,-170.59 ; 108.19,154.01 118.26,168.94 ; 113.9,79.11 128.26,88.85 ; 116.67,-74.95 131.17,-84.5 ; 135.5,29.5 152.5,33 ; 136.47,-24.6 153.52,-27.87 ; 154.01,-108.19 168.94,-118.26 ; 155.58,105.89 170.59,115.83 ; 157.37,-103.22 172.29,-113.28 ; 158.89,100.89 173.9,110.82 ; 183.69,-41.02 201.33,-44.6 ; 184.26,38.29 201.93,41.73 ; 184.89,-35.14 202.53,-38.72 ; 185.41,32.4 203.08,35.84
Top Overlay:
  text "GND /  (30)" at -15.5,-182.5 h15
  text "28" at -57.34,-133.2 h15
  text "27" at -103.94,-101.12 h15
  text "26" at -134.73,-53.64 h15
  text "25" at -145,2 h15
  text "24" at -133.2,57.34 h15
  text "22" at -53.64,134.73 h15
  text "21" at 57.34,133.2 h15
  text "20" at 103.94,101.12 h15
  text "19" at 134.73,53.64 h15
  text "18" at 145,-2 h15
  text "17" at 133.2,-57.34 h15
  text "16" at 101.12,-103.94 h15
  text "15" at 53.64,-134.73 h15
  text "DC / (29)" at -9.5,161.5 h15
  text "23" at -101.12,103.94 h15
Bottom Overlay:
  lines w1: -194.34,-33.63 -200,0 ; -193.81,36.44 -200,0 ; -193,-40.5 -184.78,-76.54 ; -192.41,43.3 -184.78,76.54 ; -169.5,0 -150,0 ; -167.5,0 -200,0 ; -166.67,-105.44 -184.78,-76.54 ; -165.11,107.83 -184.78,76.54 ; -162.81,-111.28 -141.42,-141.42 ; -161.2,113.64 -141.42,141.42 ; -156.6,-64.86 -138.58,-57.4 ; -156.6,64.86 -138.58,57.4 ; -154.68,-64.07 -184.78,-76.54 ; -153.4,63.54 -184.78,76.54 ; -146,-22 -150,0 ; -145.13,26.18 -150,0 ; -144.1,-31.36 -138.58,-57.4 ; -143.31,35.55 -138.58,57.4 ; -126.47,-76.2 -138.58,-57.4 ; -125.75,125.75 -106.07,106.07 ; -124.8,124.8 -141.42,141.42 ; -124.07,79.72 -138.58,57.4 ; -121.13,-84.12 -106.07,-106.07 ; -119.85,-119.85 -106.07,-106.07 ; -118.79,87.68 -106.07,106.07 ; -117.75,-117.75 -141.42,-141.42 ; -113.64,-161.2 -141.42,-141.42 ; -111.28,162.81 -141.42,141.42 ; -107.83,-165.11 -76.54,-184.78 -64.95,-156.81 ; -105.44,166.67 -76.54,184.78 -67.54,163.06 ; -87.68,-118.79 -106.07,-106.07 ; -84.12,121.13 -106.07,106.07 ; -79.72,-124.07 -57.4,-138.58 ; -76.2,126.47 -57.4,138.58 ; -67.51,162.99 -57.4,138.58 ; -64.86,-156.6 -57.4,-138.58 ; -35.55,-143.31 -57.4,-138.58 ; -31.36,144.1 -57.4,138.58 ; -26.18,-145.13 0,-150 22,-146 ; -22,146 0,150 26.18,145.13 ; -0.33,-151.15 -0.33,-127.65 -0.33,-101.15 ; -0.17,-101 -0.17,-2.85 ; 0.33,3 0.33,101.15 0.33,120.65 0.33,151.15 ; 31.36,-144.1 57.4,-138.58 ; 35.55,143.31 57.4,138.58 ; 64.67,-156.14 76.54,-184.78 105.44,-166.67 ; 64.86,-156.6 57.4,-138.58 ; 67.54,163.06 76.54,184.78 107.83,165.11 ; 68.34,164.98 57.4,138.58 ; 76.2,-126.47 57.4,-138.58 ; 79.72,124.07 57.4,138.58 ; 84.12,-121.13 106.07,-106.07 ; 87.68,118.79 106.07,106.07 ; 111.28,-162.81 141.42,-141.42 ; 113.64,161.2 141.42,141.42 ; 118.79,-87.68 106.07,-106.07 ; 121.13,84.12 106.07,106.07 ; 124.07,-79.72 138.58,-57.4 ; 124.8,-124.8 141.42,-141.42 ; 124.8,124.8 141.42,141.42 ; 125,-125 106.07,-106.07 ; 126.47,76.2 138.58,57.4 ; 128.25,128.25 106.07,106.07 ; 143.31,-35.55 138.58,-57.4 ; 144.1,31.36 138.58,57.4 ; 145.13,-26.18 150,0 ; 146,22 150,0 ; 161.2,-113.64 141.42,-141.42 ; 162.81,111.28 141.42,141.42 ; 163.06,-67.54 184.78,-76.54 ; 163.06,67.54 184.78,76.54 ; 163.42,-67.69 138.58,-57.4 ; 165.11,-107.83 184.78,-76.54 ; 165.16,68.41 138.58,57.4 ; 166.67,105.44 184.78,76.54 ; 176.5,0 200,0 ; 179.5,0 150,0 ; 192.41,-43.3 184.78,-76.54 ; 193,40.5 184.78,76.54 ; 193.81,-36.44 200,0 ; 194.34,33.63 200,0

## DRC0010A [mm]
pads (15):
  oval 0.6x0.24 smd paste-0.102 mask+0.051: 1(-1.4,1) 2(-1.4,0.5) 3(-1.4,0) 4(-1.4,-0.5) 5(-1.4,-1) 6(1.4,-1) 7(1.4,-0.5) 8(1.4,0) 9(1.4,0.5) 10(1.4,1)
  round 0.635 / inner round 1.524 / far side round 0.635 hole 0.381 mask+0.051: 11(-0.381,0) 11(0,-0.762) 11(0,0.762) 11(0.381,0)
  rect 1.65x2.4 smd paste-1.187 mask+0.051: 11(0,0)
Top Layer:
  region: 0.135,1.5 0.135,1.1 0.365,1.1 0.365,1.5
  region: -0.135,1.1 -0.135,1.5 -0.365,1.5 -0.365,1.1
  region: -0.135,-1.5 -0.135,-1.1 -0.365,-1.1 -0.365,-1.5
  region: 0.135,-1.1 0.135,-1.5 0.365,-1.5 0.365,-1.1
Top Overlay:
  lines w0.2: -1.7,-1.5 -1.7,-1.7 -1.5,-1.7 ; -1.7,1.39 -1.7,1.7 -0.965,1.7 ; 1.5,-1.7 1.7,-1.7 1.7,-1.5 ; 1.5,1.7 1.7,1.7 1.7,1.5
  text "*" at -1.827,1.7 h0.6
Top Paste:
  region: -0.75,-0.1 -0.75,-1.165 0.75,-1.165 0.75,-0.1
  region: -0.75,1.165 -0.75,0.1 0.75,0.1 0.75,1.165
Top Solder:
  region: 0.084,1.551 0.084,1.049 0.416,1.049 0.416,1.551
  region: -0.084,1.049 -0.084,1.551 -0.416,1.551 -0.416,1.049
  region: -0.084,-1.551 -0.084,-1.049 -0.416,-1.049 -0.416,-1.551
  region: 0.084,-1.049 0.084,-1.551 0.416,-1.551 0.416,-1.049
Mechanical 13:
  circle w0.1: c-0.875,0.875 r0.3
  lines w0.1: -1.55,-1.55 1.55,-1.55 1.55,1.55 -1.55,1.55 -1.55,-1.55

## DRC0010J [mm]
pads (15):
  oval 0.6x0.24 smd paste-0.102 mask+0.051: 1(-1.4,1) 2(-1.4,0.5) 3(-1.4,0) 4(-1.4,-0.5) 5(-1.4,-1) 6(1.4,-1) 7(1.4,-0.5) 8(1.4,0) 9(1.4,0.5) 10(1.4,1)
  round 0.5 / inner round 1.524 / far side round 0.5 hole 0.203 mask+0.051: 11(-0.575,0) 11(0,-0.95) 11(0,0.95) 11(0.575,0)
  rect 1.65x2.4 smd paste-1.187 mask+0.051: 11(0,0)
Top Layer:
  region: 0.135,1.5 0.135,1.1 0.365,1.1 0.365,1.5
  region: -0.135,1.1 -0.135,1.5 -0.365,1.5 -0.365,1.1
  region: -0.135,-1.5 -0.135,-1.1 -0.365,-1.1 -0.365,-1.5
  region: 0.135,-1.1 0.135,-1.5 0.365,-1.5 0.365,-1.1
Top Overlay:
  lines w0.2: -1.7,-1.5 -1.7,-1.7 -1.5,-1.7 ; -1.7,1.39 -1.7,1.7 -0.965,1.7 ; 1.5,-1.7 1.7,-1.7 1.7,-1.5 ; 1.5,1.7 1.7,1.7 1.7,1.5
  text "*" at -1.7,1.7 h0.6
Top Paste:
  region: -0.75,-0.1 -0.75,-1.165 0.75,-1.165 0.75,-0.1
  region: -0.75,1.165 -0.75,0.1 0.75,0.1 0.75,1.165
Top Solder:
  region: 0.084,1.551 0.084,1.049 0.416,1.049 0.416,1.551
  region: -0.084,1.049 -0.084,1.551 -0.416,1.551 -0.416,1.049
  region: -0.084,-1.551 -0.084,-1.049 -0.416,-1.049 -0.416,-1.551
  region: 0.084,-1.049 0.084,-1.551 0.416,-1.551 0.416,-1.049
Mechanical 13:
  circle w0.1: c-0.875,0.875 r0.3
  lines w0.1: -1.55,-1.55 1.55,-1.55 1.55,1.55 -1.55,1.55 -1.55,-1.55

## DRV6_1P6X1 [mm]
pads (9):
  rect 0.7x0.3 smd paste-0.15: 1(-1.05,0.65) 2(-1.05,0) 3(-1.05,-0.65) 4(1.05,-0.65) 5(1.05,0) 6(1.05,0.65)
  round 0.508 / inner round 1.524 / far side round 0.508 hole 0.254: 7(0,-0.394) 7(0,0.394)
  rect 1.016x1.6 smd paste-0.787 mask-0.787: 7(0,0)
Top Layer:
  region: 0,0.8
  region: 0,-0.8
Top Overlay:
  lines w0.152: -1.1,-1.1 1.1,-1.1 ; -1.1,1.1 1.1,1.1
Top Paste:
  region: 0.433,-0.494 0.241,-0.494 0.1,-0.635 0.1,-0.725 0.433,-0.725
  region: 0.433,0.294 0.241,0.294 0.1,0.152 0.1,-0.152 0.241,-0.294 0.433,-0.294
  region: 0.433,0.725 0.1,0.725 0.1,0.635 0.241,0.494 0.433,0.494
  region: -0.241,-0.494 -0.433,-0.494 -0.433,-0.725 -0.1,-0.725 -0.1,-0.635
  region: -0.241,0.294 -0.433,0.294 -0.433,-0.294 -0.241,-0.294 -0.1,-0.152 -0.1,0.152
  region: -0.1,0.725 -0.433,0.725 -0.433,0.494 -0.241,0.494 -0.1,0.635
  region: 1.375,0.775 0.725,0.775 0.725,0.525 1.375,0.525
  region: 1.375,0.125 0.725,0.125 0.725,-0.125 1.375,-0.125
  region: 1.375,-0.525 0.725,-0.525 0.725,-0.775 1.375,-0.775
  region: -0.725,-0.525 -1.375,-0.525 -1.375,-0.775 -0.725,-0.775
  region: -0.725,0.125 -1.375,0.125 -1.375,-0.125 -0.725,-0.125
  region: -0.725,0.775 -1.375,0.775 -1.375,0.525 -0.725,0.525
Top Solder:
  region: 0,0.8
  region: 0,-0.8
  region: 0.2,-0.864 0.2,0.864 0.572,0.864 0.572,-0.864
  region: -0.572,-0.864 -0.572,0.864 -0.2,0.864 -0.2,-0.864
  region: -0.572,-0.864 -0.572,-0.594 0.572,-0.594 0.572,-0.864
  region: -0.572,-0.194 -0.572,0.194 0.572,0.194 0.572,-0.194
  region: -0.572,0.594 -0.572,0.864 0.572,0.864 0.572,0.594
  region: 1.47,0.87 0.63,0.87 0.63,0.43 1.47,0.43
  region: 1.47,0.22 0.63,0.22 0.63,-0.22 1.47,-0.22
  region: 1.47,-0.43 0.63,-0.43 0.63,-0.87 1.47,-0.87
  region: -0.63,-0.43 -1.47,-0.43 -1.47,-0.87 -0.63,-0.87
  region: -0.63,0.22 -1.47,0.22 -1.47,-0.22 -0.63,-0.22
  region: -0.63,0.87 -1.47,0.87 -1.47,0.43 -0.63,0.43
3D body: height 0.8, standoff 0, extent -1.143,-1.143 1.143,1.143

## ElecCap [mm]
pads (2):
  round 1.2 hole 0.9: 1(7.5,0) 2(0,0)
Top Overlay:
  circle w0.2: c3.75,0 r9
  lines w0.2: 8.927,0 9.943,0 ; 9.398,-0.508 9.398,0.508